# Altium footprint library GigabitTransformer_H6062NLT_SOP-24.PcbLib: 1 footprints
Each footprint in its own frame and in the unit in brackets; x right, y up, seen from the top. Pads: shape width x height; smd on the part's side, far side on the other; paste and mask are expansions set on the pad; w line width, h text height; cw(c..) or ccw(c..) is an arc to the next point about the centre after c.
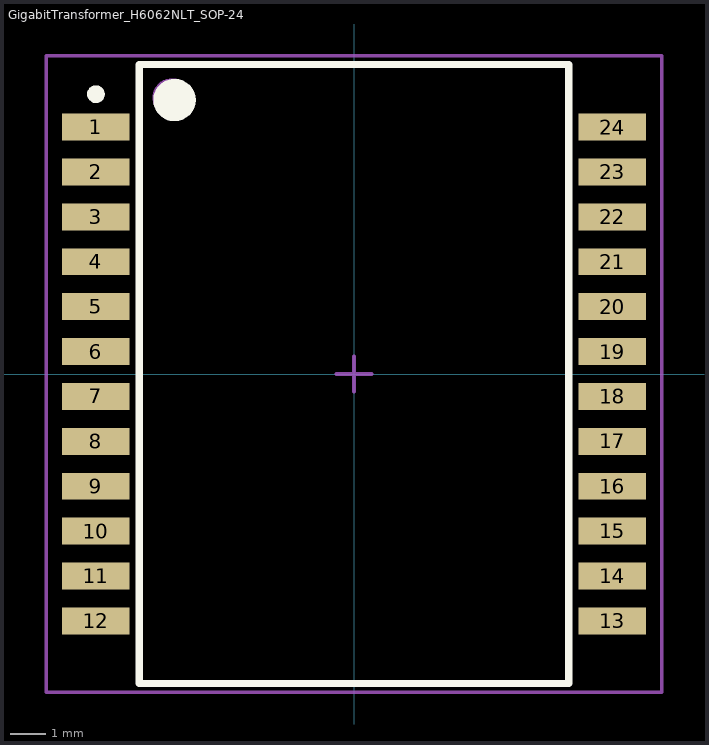
[diagram p0: the footprint, top view; thin cyan lines are the x and y axes]

## GigabitTransformer_H6062NLT_SOP-24 [mm]
height 5.51
pads (24):
  rect 1.91x0.76 smd: 1(-7.3,6.985) 2(-7.3,5.715) 3(-7.3,4.445) 4(-7.3,3.175) 5(-7.3,1.905) 6(-7.3,0.635) 7(-7.3,-0.635) 8(-7.3,-1.905) 9(-7.3,-3.175) 10(-7.3,-4.445) 11(-7.3,-5.715) 12(-7.3,-6.985) 13(7.3,-6.985) 14(7.3,-5.715) 15(7.3,-4.445) 16(7.3,-3.175) 17(7.3,-1.905) 18(7.3,-0.635) 19(7.3,0.635) 20(7.3,1.905) 21(7.3,3.175) 22(7.3,4.445) 23(7.3,5.715) 24(7.3,6.985)
Top Overlay:
  circle w0.6: c-5.075,7.75 r0.3
  circle w0.25: c-7.3,7.915 r0.125
  lines w0.2: -6.075,-8.75 6.075,-8.75 6.075,8.75 -6.075,8.75 -6.075,-8.75
Mechanical 13:
  circle w0.1: c-5.15,7.815 r0.5
  lines w0.1: -6.1,-8.765 6.1,-8.765 6.1,8.765 -6.1,8.765 -6.1,-8.765
Mechanical 15:
  lines w0.1: -0.5,0 0.5,0 ; 0,-0.5 0,0.5 ; -8.7,-9 8.7,-9 8.7,9 -8.7,9 -8.7,-9
3D body: height 5.51, standoff 0, extent -6.1,-8.765 6.1,8.765